# Altium integrated library Resistor_10K2.IntLib: 1 symbol
Pins are listed as number, name and electrical type; pins without a type are passive.

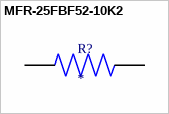
[diagram p0: symbol MFR-25FBF52-10K2]

## MFR-25FBF52-10K2
designator R?
10.2 kOhms Â±1% 0.25W, 1/4W Through Hole Resistor Axial Metal Film; MP: MFR-25FBF52-10K2; MF: Yageo; Price: None; SnapEDA_Link: https://www.snapeda.com/parts/MFR-25FBF52-10K2/Yageo/view-part/4268089/?ref=snap; Availability: Good; Purchase-URL: https://pricing.snapeda.com/search/part/MFR-25FBF52-10K2/?ref=eda; Value: *; Check_prices: https://www.snapeda.com/parts/MFR-25FBF52-10K2/Yageo/view-part/4268089/?ref=eda; Package: Axial Yageo
footprint RESAD1100W55L680D260
pins: 1, 2